# Altium footprint library Connector_PinSocket_2.54mm.PcbLib: 278 footprints (part 3 of 18)
Each footprint in its own frame and in the unit in brackets; x right, y up, seen from the top. Pads: shape width x height; smd on the part's side, far side on the other; paste and mask are expansions set on the pad; w line width, h text height; cw(c..) or ccw(c..) is an arc to the next point about the centre after c.
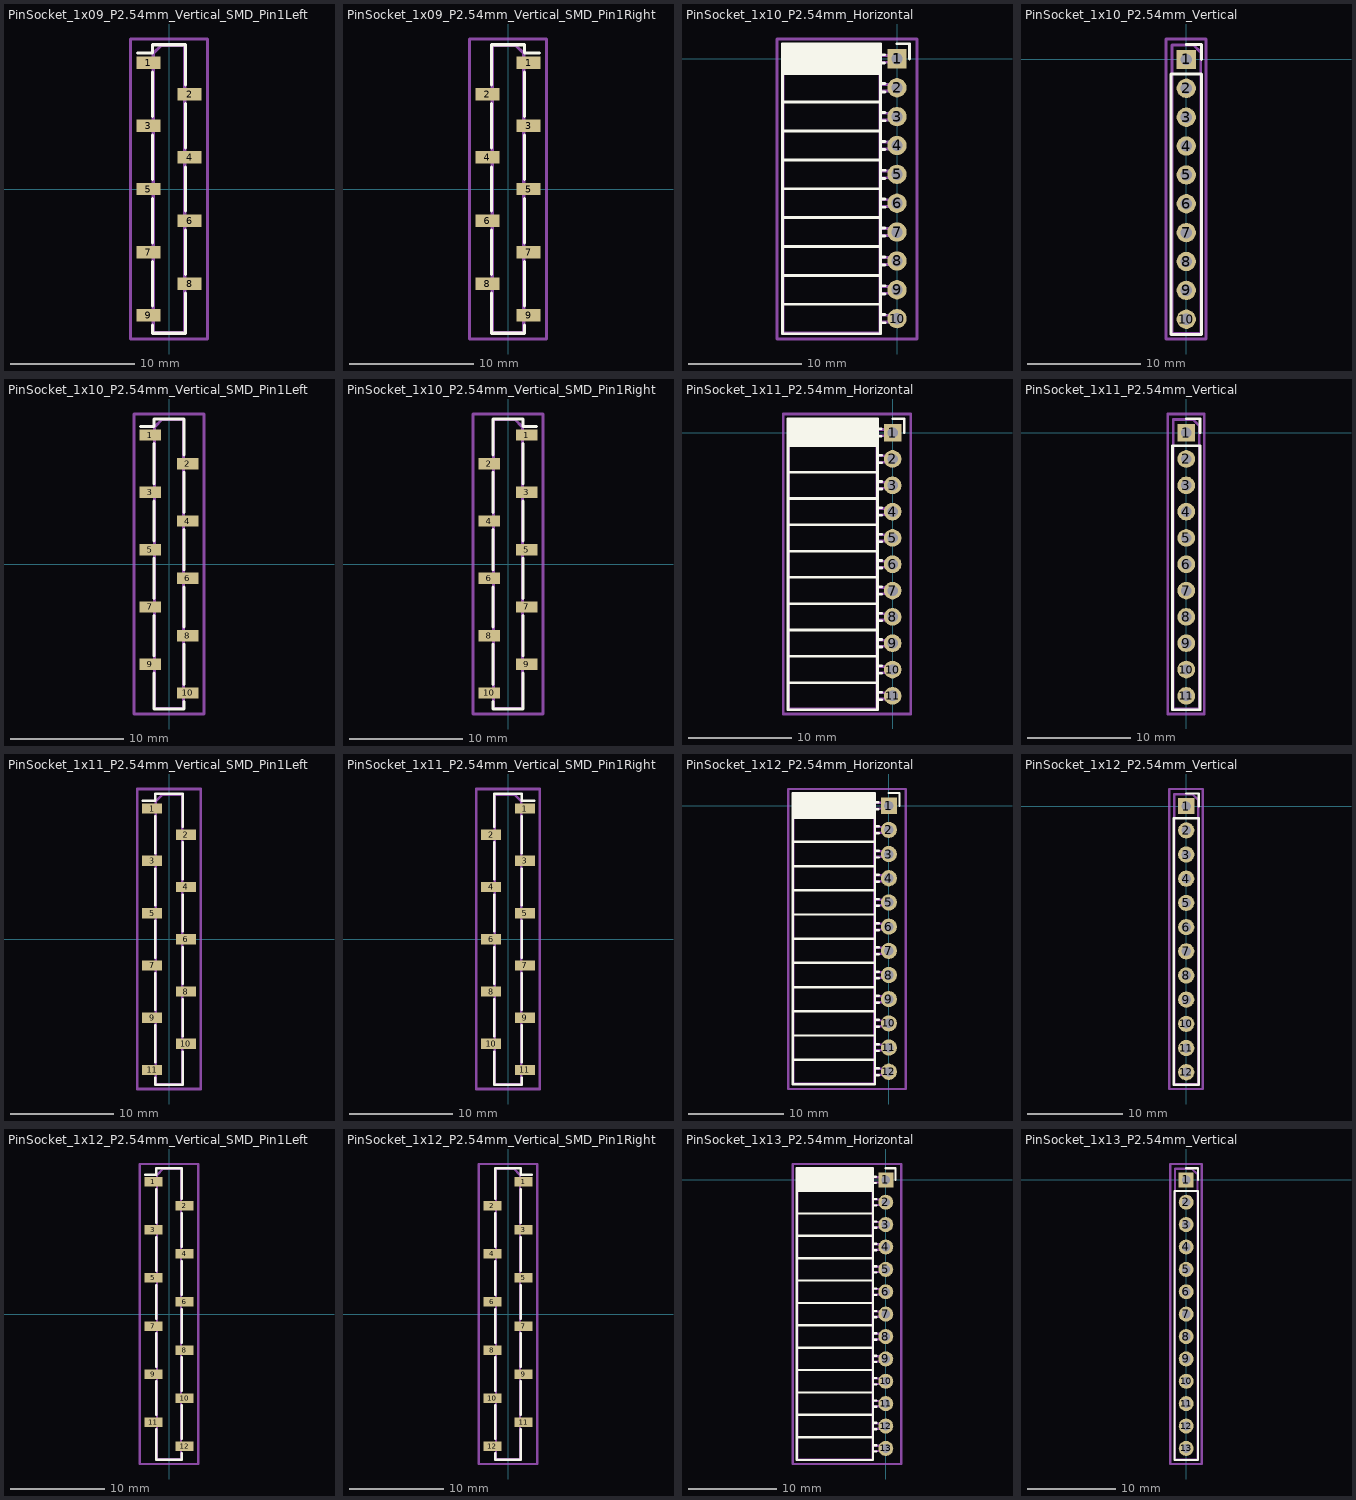
[diagram p2: the footprints below, top view; thin cyan lines are the x and y axes]

## PinSocket_1x09_P2.54mm_Vertical_SMD_Pin1Left [mm]
pads (9):
  rect 1.9x1 smd: 1(-1.65,10.16) 2(1.65,7.62) 3(-1.65,5.08) 4(1.65,2.54) 5(-1.65,0) 6(1.65,-2.54) 7(-1.65,-5.08) 8(1.65,-7.62) 9(-1.65,-10.16)
F.SilkS:
  lines w0.254: -2.54,10.92 -1.33,10.92 -1.33,11.59 1.33,11.59 1.33,8.38 ; -1.33,-10.92 -1.33,-11.59 1.33,-11.59 1.33,-8.38 ; -1.33,-9.4 -1.33,-5.84 ; -1.33,-4.32 -1.33,-0.76 ; -1.33,0.76 -1.33,4.32 ; -1.33,5.84 -1.33,9.4 ; 1.33,-6.86 1.33,-3.3 ; 1.33,-1.78 1.33,1.78 ; 1.33,3.3 1.33,6.86
Top Assembly:
  lines w0.254: -1.27,-10.46 -2.27,-10.46 -2.27,-9.86 -1.27,-9.86 ; -1.27,-5.38 -2.27,-5.38 -2.27,-4.78 -1.27,-4.78 ; -1.27,-0.3 -2.27,-0.3 -2.27,0.3 -1.27,0.3 ; -1.27,4.78 -2.27,4.78 -2.27,5.38 -1.27,5.38 ; -1.27,9.86 -2.27,9.86 -2.27,10.46 -1.27,10.46 ; 1.27,-7.92 2.27,-7.92 2.27,-7.32 1.27,-7.32 ; 1.27,-2.84 2.27,-2.84 2.27,-2.24 1.27,-2.24 ; 1.27,2.24 2.27,2.24 2.27,2.84 1.27,2.84 ; 1.27,7.32 2.27,7.32 2.27,7.92 1.27,7.92 ; -1.27,-11.53 1.27,-11.53 1.27,11.53 -0.635,11.53 -1.27,10.895 -1.27,-11.53
  text "'.Designator'" at 0.84,-4.047 h1
Top Courtyard:
  lines w0.254: -3.1,-12.05 3.1,-12.05 3.1,12.05 -3.1,12.05 -3.1,-12.05
Top Designator:
  text ".Designator" at -7.618,-0.508 h1.52

## PinSocket_1x09_P2.54mm_Vertical_SMD_Pin1Right [mm]
pads (9):
  rect 1.9x1 smd: 1(1.65,10.16) 2(-1.65,7.62) 3(1.65,5.08) 4(-1.65,2.54) 5(1.65,0) 6(-1.65,-2.54) 7(1.65,-5.08) 8(-1.65,-7.62) 9(1.65,-10.16)
F.SilkS:
  lines w0.254: -1.33,-8.38 -1.33,-11.59 1.33,-11.59 1.33,-10.92 ; -1.33,-6.86 -1.33,-3.3 ; -1.33,-1.78 -1.33,1.78 ; -1.33,3.3 -1.33,6.86 ; -1.33,8.38 -1.33,11.59 1.33,11.59 1.33,10.92 2.54,10.92 ; 1.33,-9.4 1.33,-5.84 ; 1.33,-4.32 1.33,-0.76 ; 1.33,0.76 1.33,4.32 ; 1.33,5.84 1.33,9.4
Top Assembly:
  lines w0.254: -1.27,-7.92 -2.27,-7.92 -2.27,-7.32 -1.27,-7.32 ; -1.27,-2.84 -2.27,-2.84 -2.27,-2.24 -1.27,-2.24 ; -1.27,2.24 -2.27,2.24 -2.27,2.84 -1.27,2.84 ; -1.27,7.32 -2.27,7.32 -2.27,7.92 -1.27,7.92 ; 1.27,-10.46 2.27,-10.46 2.27,-9.86 1.27,-9.86 ; 1.27,-5.38 2.27,-5.38 2.27,-4.78 1.27,-4.78 ; 1.27,-0.3 2.27,-0.3 2.27,0.3 1.27,0.3 ; 1.27,4.78 2.27,4.78 2.27,5.38 1.27,5.38 ; 1.27,9.86 2.27,9.86 2.27,10.46 1.27,10.46 ; -1.27,-11.53 1.27,-11.53 1.27,10.895 0.635,11.53 -1.27,11.53 -1.27,-11.53
  text "'.Designator'" at 0.84,-4.047 h1
Top Courtyard:
  lines w0.254: -3.1,-12.05 3.1,-12.05 3.1,12.05 -3.1,12.05 -3.1,-12.05
Top Designator:
  text ".Designator" at -7.618,-0.508 h1.52

## PinSocket_1x10_P2.54mm_Horizontal [mm]
pads (10):
  rect 1.7x1.7 hole 1: 1(0,0)
  round 1.7 hole 1: 2(0,-2.54) 3(0,-5.08) 4(0,-7.62) 5(0,-10.16) 6(0,-12.7) 7(0,-15.24) 8(0,-17.78) 9(0,-20.32) 10(0,-22.86)
F.SilkS:
  lines w0.254: -10.09,-21.59 -1.46,-21.59 ; -10.09,-19.05 -1.46,-19.05 ; -10.09,-16.51 -1.46,-16.51 ; -10.09,-13.97 -1.46,-13.97 ; -10.09,-11.43 -1.46,-11.43 ; -10.09,-8.89 -1.46,-8.89 ; -10.09,-6.35 -1.46,-6.35 ; -10.09,-3.81 -1.46,-3.81 ; -10.09,-1.27 -1.46,-1.27 ; -10.09,-1.152 -1.46,-1.152 ; -10.09,-1.034 -1.46,-1.034 ; -10.09,-0.916 -1.46,-0.916 ; -10.09,-0.798 -1.46,-0.798 ; -10.09,-0.68 -1.46,-0.68 ; -10.09,-0.561 -1.46,-0.561 ; -10.09,-0.443 -1.46,-0.443 ; -10.09,-0.325 -1.46,-0.325 ; -10.09,-0.207 -1.46,-0.207 ; -10.09,-0.089 -1.46,-0.089 ; -10.09,0.029 -1.46,0.029 ; -10.09,0.147 -1.46,0.147 ; -10.09,0.265 -1.46,0.265 ; -10.09,0.383 -1.46,0.383 ; -10.09,0.501 -1.46,0.501 ; -10.09,0.62 -1.46,0.62 ; -10.09,0.738 -1.46,0.738 ; -10.09,0.856 -1.46,0.856 ; -10.09,0.974 -1.46,0.974 ; -10.09,1.092 -1.46,1.092 ; -10.09,1.21 -1.46,1.21 ; -1.46,-23.22 -1.05,-23.22 ; -1.46,-22.5 -1.05,-22.5 ; -1.46,-20.68 -1.05,-20.68 ; -1.46,-19.96 -1.05,-19.96 ; -1.46,-18.14 -1.05,-18.14 ; -1.46,-17.42 -1.05,-17.42 ; -1.46,-15.6 -1.05,-15.6 ; -1.46,-14.88 -1.05,-14.88 ; -1.46,-13.06 -1.05,-13.06 ; -1.46,-12.34 -1.05,-12.34 ; -1.46,-10.52 -1.05,-10.52 ; -1.46,-9.8 -1.05,-9.8 ; -1.46,-7.98 -1.05,-7.98 ; -1.46,-7.26 -1.05,-7.26 ; -1.46,-5.44 -1.05,-5.44 ; -1.46,-4.72 -1.05,-4.72 ; -1.46,-2.9 -1.05,-2.9 ; -1.46,-2.18 -1.05,-2.18 ; -1.46,-0.36 -1.11,-0.36 ; -1.46,0.36 -1.11,0.36 ; 0,1.33 1.11,1.33 1.11,0 ; -10.09,-24.19 -1.46,-24.19 -1.46,1.33 -10.09,1.33 -10.09,-24.19
Top Assembly:
  lines w0.254: -1.52,-23.16 0,-23.16 0,-22.56 -1.52,-22.56 ; -1.52,-20.62 0,-20.62 0,-20.02 -1.52,-20.02 ; -1.52,-18.08 0,-18.08 0,-17.48 -1.52,-17.48 ; -1.52,-15.54 0,-15.54 0,-14.94 -1.52,-14.94 ; -1.52,-13 0,-13 0,-12.4 -1.52,-12.4 ; -1.52,-10.46 0,-10.46 0,-9.86 -1.52,-9.86 ; -1.52,-7.92 0,-7.92 0,-7.32 -1.52,-7.32 ; -1.52,-5.38 0,-5.38 0,-4.78 -1.52,-4.78 ; -1.52,-2.84 0,-2.84 0,-2.24 -1.52,-2.24 ; -1.52,-0.3 0,-0.3 0,0.3 -1.52,0.3 ; -1.52,0.3 -1.52,-24.13 -10.03,-24.13 -10.03,1.27 -2.49,1.27 -1.52,0.3
  text "'.Designator'" at -4.935,-15.477 h1
Top Courtyard:
  lines w0.254: -10.55,-24.65 1.75,-24.65 1.75,1.75 -10.55,1.75 -10.55,-24.65
Top Designator:
  text ".Designator" at -12.018,-11.958 h1.52

## PinSocket_1x10_P2.54mm_Vertical [mm]
pads (10):
  rect 1.7x1.7 hole 1: 1(0,0)
  round 1.7 hole 1: 2(0,-2.54) 3(0,-5.08) 4(0,-7.62) 5(0,-10.16) 6(0,-12.7) 7(0,-15.24) 8(0,-17.78) 9(0,-20.32) 10(0,-22.86)
F.SilkS:
  lines w0.254: 0,1.33 1.33,1.33 1.33,0 ; -1.33,-24.19 1.33,-24.19 1.33,-1.27 -1.33,-1.27 -1.33,-24.19
Top Assembly:
  lines w0.254: -1.27,-24.13 1.27,-24.13 1.27,0.635 0.635,1.27 -1.27,1.27 -1.27,-24.13
  text "'.Designator'" at 0.84,-15.477 h1
Top Courtyard:
  lines w0.254: -1.8,-24.6 1.75,-24.6 1.75,1.8 -1.8,1.8 -1.8,-24.6
Top Designator:
  text ".Designator" at -7.643,-11.908 h1.52

## PinSocket_1x10_P2.54mm_Vertical_SMD_Pin1Left [mm]
pads (10):
  rect 1.9x1 smd: 1(-1.65,11.43) 2(1.65,8.89) 3(-1.65,6.35) 4(1.65,3.81) 5(-1.65,1.27) 6(1.65,-1.27) 7(-1.65,-3.81) 8(1.65,-6.35) 9(-1.65,-8.89) 10(1.65,-11.43)
F.SilkS:
  lines w0.254: -2.54,12.19 -1.33,12.19 -1.33,12.86 1.33,12.86 1.33,9.65 ; -1.33,-9.65 -1.33,-12.86 1.33,-12.86 1.33,-12.19 ; -1.33,-8.13 -1.33,-4.57 ; -1.33,-3.05 -1.33,0.51 ; -1.33,2.03 -1.33,5.59 ; -1.33,7.11 -1.33,10.67 ; 1.33,-10.67 1.33,-7.11 ; 1.33,-5.59 1.33,-2.03 ; 1.33,-0.51 1.33,3.05 ; 1.33,4.57 1.33,8.13
Top Assembly:
  lines w0.254: -1.27,-9.19 -2.27,-9.19 -2.27,-8.59 -1.27,-8.59 ; -1.27,-4.11 -2.27,-4.11 -2.27,-3.51 -1.27,-3.51 ; -1.27,0.97 -2.27,0.97 -2.27,1.57 -1.27,1.57 ; -1.27,6.05 -2.27,6.05 -2.27,6.65 -1.27,6.65 ; -1.27,11.13 -2.27,11.13 -2.27,11.73 -1.27,11.73 ; 1.27,-11.73 2.27,-11.73 2.27,-11.13 1.27,-11.13 ; 1.27,-6.65 2.27,-6.65 2.27,-6.05 1.27,-6.05 ; 1.27,-1.57 2.27,-1.57 2.27,-0.97 1.27,-0.97 ; 1.27,3.51 2.27,3.51 2.27,4.11 1.27,4.11 ; 1.27,8.59 2.27,8.59 2.27,9.19 1.27,9.19 ; -1.27,-12.8 1.27,-12.8 1.27,12.8 -0.635,12.8 -1.27,12.165 -1.27,-12.8
  text "'.Designator'" at 0.84,-4.047 h1
Top Courtyard:
  lines w0.254: -3.1,-13.3 3.1,-13.3 3.1,13.3 -3.1,13.3 -3.1,-13.3
Top Designator:
  text ".Designator" at -7.618,-0.508 h1.52

## PinSocket_1x10_P2.54mm_Vertical_SMD_Pin1Right [mm]
pads (10):
  rect 1.9x1 smd: 1(1.65,11.43) 2(-1.65,8.89) 3(1.65,6.35) 4(-1.65,3.81) 5(1.65,1.27) 6(-1.65,-1.27) 7(1.65,-3.81) 8(-1.65,-6.35) 9(1.65,-8.89) 10(-1.65,-11.43)
F.SilkS:
  lines w0.254: -1.33,-12.19 -1.33,-12.86 1.33,-12.86 1.33,-9.65 ; -1.33,-10.67 -1.33,-7.11 ; -1.33,-5.59 -1.33,-2.03 ; -1.33,-0.51 -1.33,3.05 ; -1.33,4.57 -1.33,8.13 ; -1.33,9.65 -1.33,12.86 1.33,12.86 1.33,12.19 2.54,12.19 ; 1.33,-8.13 1.33,-4.57 ; 1.33,-3.05 1.33,0.51 ; 1.33,2.03 1.33,5.59 ; 1.33,7.11 1.33,10.67
Top Assembly:
  lines w0.254: -1.27,-11.73 -2.27,-11.73 -2.27,-11.13 -1.27,-11.13 ; -1.27,-6.65 -2.27,-6.65 -2.27,-6.05 -1.27,-6.05 ; -1.27,-1.57 -2.27,-1.57 -2.27,-0.97 -1.27,-0.97 ; -1.27,3.51 -2.27,3.51 -2.27,4.11 -1.27,4.11 ; -1.27,8.59 -2.27,8.59 -2.27,9.19 -1.27,9.19 ; 1.27,-9.19 2.27,-9.19 2.27,-8.59 1.27,-8.59 ; 1.27,-4.11 2.27,-4.11 2.27,-3.51 1.27,-3.51 ; 1.27,0.97 2.27,0.97 2.27,1.57 1.27,1.57 ; 1.27,6.05 2.27,6.05 2.27,6.65 1.27,6.65 ; 1.27,11.13 2.27,11.13 2.27,11.73 1.27,11.73 ; -1.27,-12.8 1.27,-12.8 1.27,12.165 0.635,12.8 -1.27,12.8 -1.27,-12.8
  text "'.Designator'" at 0.84,-4.047 h1
Top Courtyard:
  lines w0.254: -3.1,-13.3 3.1,-13.3 3.1,13.3 -3.1,13.3 -3.1,-13.3
Top Designator:
  text ".Designator" at -7.618,-0.508 h1.52

## PinSocket_1x11_P2.54mm_Horizontal [mm]
pads (11):
  rect 1.7x1.7 hole 1: 1(0,0)
  round 1.7 hole 1: 2(0,-2.54) 3(0,-5.08) 4(0,-7.62) 5(0,-10.16) 6(0,-12.7) 7(0,-15.24) 8(0,-17.78) 9(0,-20.32) 10(0,-22.86) 11(0,-25.4)
F.SilkS:
  lines w0.254: -10.09,-24.13 -1.46,-24.13 ; -10.09,-21.59 -1.46,-21.59 ; -10.09,-19.05 -1.46,-19.05 ; -10.09,-16.51 -1.46,-16.51 ; -10.09,-13.97 -1.46,-13.97 ; -10.09,-11.43 -1.46,-11.43 ; -10.09,-8.89 -1.46,-8.89 ; -10.09,-6.35 -1.46,-6.35 ; -10.09,-3.81 -1.46,-3.81 ; -10.09,-1.27 -1.46,-1.27 ; -10.09,-1.152 -1.46,-1.152 ; -10.09,-1.034 -1.46,-1.034 ; -10.09,-0.916 -1.46,-0.916 ; -10.09,-0.798 -1.46,-0.798 ; -10.09,-0.68 -1.46,-0.68 ; -10.09,-0.561 -1.46,-0.561 ; -10.09,-0.443 -1.46,-0.443 ; -10.09,-0.325 -1.46,-0.325 ; -10.09,-0.207 -1.46,-0.207 ; -10.09,-0.089 -1.46,-0.089 ; -10.09,0.029 -1.46,0.029 ; -10.09,0.147 -1.46,0.147 ; -10.09,0.265 -1.46,0.265 ; -10.09,0.383 -1.46,0.383 ; -10.09,0.501 -1.46,0.501 ; -10.09,0.62 -1.46,0.62 ; -10.09,0.738 -1.46,0.738 ; -10.09,0.856 -1.46,0.856 ; -10.09,0.974 -1.46,0.974 ; -10.09,1.092 -1.46,1.092 ; -10.09,1.21 -1.46,1.21 ; -1.46,-25.76 -1.05,-25.76 ; -1.46,-25.04 -1.05,-25.04 ; -1.46,-23.22 -1.05,-23.22 ; -1.46,-22.5 -1.05,-22.5 ; -1.46,-20.68 -1.05,-20.68 ; -1.46,-19.96 -1.05,-19.96 ; -1.46,-18.14 -1.05,-18.14 ; -1.46,-17.42 -1.05,-17.42 ; -1.46,-15.6 -1.05,-15.6 ; -1.46,-14.88 -1.05,-14.88 ; -1.46,-13.06 -1.05,-13.06 ; -1.46,-12.34 -1.05,-12.34 ; -1.46,-10.52 -1.05,-10.52 ; -1.46,-9.8 -1.05,-9.8 ; -1.46,-7.98 -1.05,-7.98 ; -1.46,-7.26 -1.05,-7.26 ; -1.46,-5.44 -1.05,-5.44 ; -1.46,-4.72 -1.05,-4.72 ; -1.46,-2.9 -1.05,-2.9 ; -1.46,-2.18 -1.05,-2.18 ; -1.46,-0.36 -1.11,-0.36 ; -1.46,0.36 -1.11,0.36 ; 0,1.33 1.11,1.33 1.11,0 ; -10.09,-26.73 -1.46,-26.73 -1.46,1.33 -10.09,1.33 -10.09,-26.73
Top Assembly:
  lines w0.254: -1.52,-25.7 0,-25.7 0,-25.1 -1.52,-25.1 ; -1.52,-23.16 0,-23.16 0,-22.56 -1.52,-22.56 ; -1.52,-20.62 0,-20.62 0,-20.02 -1.52,-20.02 ; -1.52,-18.08 0,-18.08 0,-17.48 -1.52,-17.48 ; -1.52,-15.54 0,-15.54 0,-14.94 -1.52,-14.94 ; -1.52,-13 0,-13 0,-12.4 -1.52,-12.4 ; -1.52,-10.46 0,-10.46 0,-9.86 -1.52,-9.86 ; -1.52,-7.92 0,-7.92 0,-7.32 -1.52,-7.32 ; -1.52,-5.38 0,-5.38 0,-4.78 -1.52,-4.78 ; -1.52,-2.84 0,-2.84 0,-2.24 -1.52,-2.24 ; -1.52,-0.3 0,-0.3 0,0.3 -1.52,0.3 ; -1.52,0.3 -1.52,-26.67 -10.03,-26.67 -10.03,1.27 -2.49,1.27 -1.52,0.3
  text "'.Designator'" at -4.935,-16.747 h1
Top Courtyard:
  lines w0.254: -10.55,-27.15 1.75,-27.15 1.75,1.8 -10.55,1.8 -10.55,-27.15
Top Designator:
  text ".Designator" at -12.018,-13.183 h1.52

## PinSocket_1x11_P2.54mm_Vertical [mm]
pads (11):
  rect 1.7x1.7 hole 1: 1(0,0)
  round 1.7 hole 1: 2(0,-2.54) 3(0,-5.08) 4(0,-7.62) 5(0,-10.16) 6(0,-12.7) 7(0,-15.24) 8(0,-17.78) 9(0,-20.32) 10(0,-22.86) 11(0,-25.4)
F.SilkS:
  lines w0.254: 0,1.33 1.33,1.33 1.33,0 ; -1.33,-26.73 1.33,-26.73 1.33,-1.27 -1.33,-1.27 -1.33,-26.73
Top Assembly:
  lines w0.254: -1.27,-26.67 1.27,-26.67 1.27,0.635 0.635,1.27 -1.27,1.27 -1.27,-26.67
  text "'.Designator'" at 0.84,-16.747 h1
Top Courtyard:
  lines w0.254: -1.8,-27.15 1.75,-27.15 1.75,1.8 -1.8,1.8 -1.8,-27.15
Top Designator:
  text ".Designator" at -7.643,-13.183 h1.52

## PinSocket_1x11_P2.54mm_Vertical_SMD_Pin1Left [mm]
pads (11):
  rect 1.9x1 smd: 1(-1.65,12.7) 2(1.65,10.16) 3(-1.65,7.62) 4(1.65,5.08) 5(-1.65,2.54) 6(1.65,0) 7(-1.65,-2.54) 8(1.65,-5.08) 9(-1.65,-7.62) 10(1.65,-10.16) 11(-1.65,-12.7)
F.SilkS:
  lines w0.254: -2.54,13.46 -1.33,13.46 -1.33,14.13 1.33,14.13 1.33,10.92 ; -1.33,-13.46 -1.33,-14.13 1.33,-14.13 1.33,-10.92 ; -1.33,-11.94 -1.33,-8.38 ; -1.33,-6.86 -1.33,-3.3 ; -1.33,-1.78 -1.33,1.78 ; -1.33,3.3 -1.33,6.86 ; -1.33,8.38 -1.33,11.94 ; 1.33,-9.4 1.33,-5.84 ; 1.33,-4.32 1.33,-0.76 ; 1.33,0.76 1.33,4.32 ; 1.33,5.84 1.33,9.4
Top Assembly:
  lines w0.254: -1.27,-13 -2.27,-13 -2.27,-12.4 -1.27,-12.4 ; -1.27,-7.92 -2.27,-7.92 -2.27,-7.32 -1.27,-7.32 ; -1.27,-2.84 -2.27,-2.84 -2.27,-2.24 -1.27,-2.24 ; -1.27,2.24 -2.27,2.24 -2.27,2.84 -1.27,2.84 ; -1.27,7.32 -2.27,7.32 -2.27,7.92 -1.27,7.92 ; -1.27,12.4 -2.27,12.4 -2.27,13 -1.27,13 ; 1.27,-10.46 2.27,-10.46 2.27,-9.86 1.27,-9.86 ; 1.27,-5.38 2.27,-5.38 2.27,-4.78 1.27,-4.78 ; 1.27,-0.3 2.27,-0.3 2.27,0.3 1.27,0.3 ; 1.27,4.78 2.27,4.78 2.27,5.38 1.27,5.38 ; 1.27,9.86 2.27,9.86 2.27,10.46 1.27,10.46 ; -1.27,-14.07 1.27,-14.07 1.27,14.07 -0.635,14.07 -1.27,13.435 -1.27,-14.07
  text "'.Designator'" at 0.84,-4.047 h1
Top Courtyard:
  lines w0.254: -3.1,-14.55 3.1,-14.55 3.1,14.6 -3.1,14.6 -3.1,-14.55
Top Designator:
  text ".Designator" at -7.618,-0.483 h1.52

## PinSocket_1x11_P2.54mm_Vertical_SMD_Pin1Right [mm]
pads (11):
  rect 1.9x1 smd: 1(1.65,12.7) 2(-1.65,10.16) 3(1.65,7.62) 4(-1.65,5.08) 5(1.65,2.54) 6(-1.65,0) 7(1.65,-2.54) 8(-1.65,-5.08) 9(1.65,-7.62) 10(-1.65,-10.16) 11(1.65,-12.7)
F.SilkS:
  lines w0.254: -1.33,-10.92 -1.33,-14.13 1.33,-14.13 1.33,-13.46 ; -1.33,-9.4 -1.33,-5.84 ; -1.33,-4.32 -1.33,-0.76 ; -1.33,0.76 -1.33,4.32 ; -1.33,5.84 -1.33,9.4 ; -1.33,10.92 -1.33,14.13 1.33,14.13 1.33,13.46 2.54,13.46 ; 1.33,-11.94 1.33,-8.38 ; 1.33,-6.86 1.33,-3.3 ; 1.33,-1.78 1.33,1.78 ; 1.33,3.3 1.33,6.86 ; 1.33,8.38 1.33,11.94
Top Assembly:
  lines w0.254: -1.27,-10.46 -2.27,-10.46 -2.27,-9.86 -1.27,-9.86 ; -1.27,-5.38 -2.27,-5.38 -2.27,-4.78 -1.27,-4.78 ; -1.27,-0.3 -2.27,-0.3 -2.27,0.3 -1.27,0.3 ; -1.27,4.78 -2.27,4.78 -2.27,5.38 -1.27,5.38 ; -1.27,9.86 -2.27,9.86 -2.27,10.46 -1.27,10.46 ; 1.27,-13 2.27,-13 2.27,-12.4 1.27,-12.4 ; 1.27,-7.92 2.27,-7.92 2.27,-7.32 1.27,-7.32 ; 1.27,-2.84 2.27,-2.84 2.27,-2.24 1.27,-2.24 ; 1.27,2.24 2.27,2.24 2.27,2.84 1.27,2.84 ; 1.27,7.32 2.27,7.32 2.27,7.92 1.27,7.92 ; 1.27,12.4 2.27,12.4 2.27,13 1.27,13 ; -1.27,-14.07 1.27,-14.07 1.27,13.435 0.635,14.07 -1.27,14.07 -1.27,-14.07
  text "'.Designator'" at 0.84,-4.047 h1
Top Courtyard:
  lines w0.254: -3.1,-14.55 3.1,-14.55 3.1,14.6 -3.1,14.6 -3.1,-14.55
Top Designator:
  text ".Designator" at -7.618,-0.483 h1.52

## PinSocket_1x12_P2.54mm_Horizontal [mm]
pads (12):
  rect 1.7x1.7 hole 1: 1(0,0)
  round 1.7 hole 1: 2(0,-2.54) 3(0,-5.08) 4(0,-7.62) 5(0,-10.16) 6(0,-12.7) 7(0,-15.24) 8(0,-17.78) 9(0,-20.32) 10(0,-22.86) 11(0,-25.4) 12(0,-27.94)
F.SilkS:
  lines w0.254: -10.09,-26.67 -1.46,-26.67 ; -10.09,-24.13 -1.46,-24.13 ; -10.09,-21.59 -1.46,-21.59 ; -10.09,-19.05 -1.46,-19.05 ; -10.09,-16.51 -1.46,-16.51 ; -10.09,-13.97 -1.46,-13.97 ; -10.09,-11.43 -1.46,-11.43 ; -10.09,-8.89 -1.46,-8.89 ; -10.09,-6.35 -1.46,-6.35 ; -10.09,-3.81 -1.46,-3.81 ; -10.09,-1.27 -1.46,-1.27 ; -10.09,-1.152 -1.46,-1.152 ; -10.09,-1.034 -1.46,-1.034 ; -10.09,-0.916 -1.46,-0.916 ; -10.09,-0.798 -1.46,-0.798 ; -10.09,-0.68 -1.46,-0.68 ; -10.09,-0.561 -1.46,-0.561 ; -10.09,-0.443 -1.46,-0.443 ; -10.09,-0.325 -1.46,-0.325 ; -10.09,-0.207 -1.46,-0.207 ; -10.09,-0.089 -1.46,-0.089 ; -10.09,0.029 -1.46,0.029 ; -10.09,0.147 -1.46,0.147 ; -10.09,0.265 -1.46,0.265 ; -10.09,0.383 -1.46,0.383 ; -10.09,0.501 -1.46,0.501 ; -10.09,0.62 -1.46,0.62 ; -10.09,0.738 -1.46,0.738 ; -10.09,0.856 -1.46,0.856 ; -10.09,0.974 -1.46,0.974 ; -10.09,1.092 -1.46,1.092 ; -10.09,1.21 -1.46,1.21 ; -1.46,-28.3 -1.05,-28.3 ; -1.46,-27.58 -1.05,-27.58 ; -1.46,-25.76 -1.05,-25.76 ; -1.46,-25.04 -1.05,-25.04 ; -1.46,-23.22 -1.05,-23.22 ; -1.46,-22.5 -1.05,-22.5 ; -1.46,-20.68 -1.05,-20.68 ; -1.46,-19.96 -1.05,-19.96 ; -1.46,-18.14 -1.05,-18.14 ; -1.46,-17.42 -1.05,-17.42 ; -1.46,-15.6 -1.05,-15.6 ; -1.46,-14.88 -1.05,-14.88 ; -1.46,-13.06 -1.05,-13.06 ; -1.46,-12.34 -1.05,-12.34 ; -1.46,-10.52 -1.05,-10.52 ; -1.46,-9.8 -1.05,-9.8 ; -1.46,-7.98 -1.05,-7.98 ; -1.46,-7.26 -1.05,-7.26 ; -1.46,-5.44 -1.05,-5.44 ; -1.46,-4.72 -1.05,-4.72 ; -1.46,-2.9 -1.05,-2.9 ; -1.46,-2.18 -1.05,-2.18 ; -1.46,-0.36 -1.11,-0.36 ; -1.46,0.36 -1.11,0.36 ; 0,1.33 1.11,1.33 1.11,0 ; -10.09,-29.27 -1.46,-29.27 -1.46,1.33 -10.09,1.33 -10.09,-29.27
Top Assembly:
  lines w0.254: -1.52,-28.24 0,-28.24 0,-27.64 -1.52,-27.64 ; -1.52,-25.7 0,-25.7 0,-25.1 -1.52,-25.1 ; -1.52,-23.16 0,-23.16 0,-22.56 -1.52,-22.56 ; -1.52,-20.62 0,-20.62 0,-20.02 -1.52,-20.02 ; -1.52,-18.08 0,-18.08 0,-17.48 -1.52,-17.48 ; -1.52,-15.54 0,-15.54 0,-14.94 -1.52,-14.94 ; -1.52,-13 0,-13 0,-12.4 -1.52,-12.4 ; -1.52,-10.46 0,-10.46 0,-9.86 -1.52,-9.86 ; -1.52,-7.92 0,-7.92 0,-7.32 -1.52,-7.32 ; -1.52,-5.38 0,-5.38 0,-4.78 -1.52,-4.78 ; -1.52,-2.84 0,-2.84 0,-2.24 -1.52,-2.24 ; -1.52,-0.3 0,-0.3 0,0.3 -1.52,0.3 ; -1.52,0.3 -1.52,-29.21 -10.03,-29.21 -10.03,1.27 -2.49,1.27 -1.52,0.3
  text "'.Designator'" at -4.935,-18.017 h1
Top Courtyard:
  lines w0.254: -10.55,-29.75 1.75,-29.75 1.75,1.75 -10.55,1.75 -10.55,-29.75
Top Designator:
  text ".Designator" at -12.018,-14.508 h1.52

## PinSocket_1x12_P2.54mm_Vertical [mm]
pads (12):
  rect 1.7x1.7 hole 1: 1(0,0)
  round 1.7 hole 1: 2(0,-2.54) 3(0,-5.08) 4(0,-7.62) 5(0,-10.16) 6(0,-12.7) 7(0,-15.24) 8(0,-17.78) 9(0,-20.32) 10(0,-22.86) 11(0,-25.4) 12(0,-27.94)
F.SilkS:
  lines w0.254: 0,1.33 1.33,1.33 1.33,0 ; -1.33,-29.27 1.33,-29.27 1.33,-1.27 -1.33,-1.27 -1.33,-29.27
Top Assembly:
  lines w0.254: -1.27,-29.21 1.27,-29.21 1.27,0.635 0.635,1.27 -1.27,1.27 -1.27,-29.21
  text "'.Designator'" at 0.84,-18.017 h1
Top Courtyard:
  lines w0.254: -1.8,-29.7 1.75,-29.7 1.75,1.8 -1.8,1.8 -1.8,-29.7
Top Designator:
  text ".Designator" at -7.643,-14.458 h1.52

## PinSocket_1x12_P2.54mm_Vertical_SMD_Pin1Left [mm]
pads (12):
  rect 1.9x1 smd: 1(-1.65,13.97) 2(1.65,11.43) 3(-1.65,8.89) 4(1.65,6.35) 5(-1.65,3.81) 6(1.65,1.27) 7(-1.65,-1.27) 8(1.65,-3.81) 9(-1.65,-6.35) 10(1.65,-8.89) 11(-1.65,-11.43) 12(1.65,-13.97)
F.SilkS:
  lines w0.254: -2.54,14.73 -1.33,14.73 -1.33,15.4 1.33,15.4 1.33,12.19 ; -1.33,-12.19 -1.33,-15.4 1.33,-15.4 1.33,-14.73 ; -1.33,-10.67 -1.33,-7.11 ; -1.33,-5.59 -1.33,-2.03 ; -1.33,-0.51 -1.33,3.05 ; -1.33,4.57 -1.33,8.13 ; -1.33,9.65 -1.33,13.21 ; 1.33,-13.21 1.33,-9.65 ; 1.33,-8.13 1.33,-4.57 ; 1.33,-3.05 1.33,0.51 ; 1.33,2.03 1.33,5.59 ; 1.33,7.11 1.33,10.67
Top Assembly:
  lines w0.254: -1.27,-11.73 -2.27,-11.73 -2.27,-11.13 -1.27,-11.13 ; -1.27,-6.65 -2.27,-6.65 -2.27,-6.05 -1.27,-6.05 ; -1.27,-1.57 -2.27,-1.57 -2.27,-0.97 -1.27,-0.97 ; -1.27,3.51 -2.27,3.51 -2.27,4.11 -1.27,4.11 ; -1.27,8.59 -2.27,8.59 -2.27,9.19 -1.27,9.19 ; -1.27,13.67 -2.27,13.67 -2.27,14.27 -1.27,14.27 ; 1.27,-14.27 2.27,-14.27 2.27,-13.67 1.27,-13.67 ; 1.27,-9.19 2.27,-9.19 2.27,-8.59 1.27,-8.59 ; 1.27,-4.11 2.27,-4.11 2.27,-3.51 1.27,-3.51 ; 1.27,0.97 2.27,0.97 2.27,1.57 1.27,1.57 ; 1.27,6.05 2.27,6.05 2.27,6.65 1.27,6.65 ; 1.27,11.13 2.27,11.13 2.27,11.73 1.27,11.73 ; -1.27,-15.34 1.27,-15.34 1.27,15.34 -0.635,15.34 -1.27,14.705 -1.27,-15.34
  text "'.Designator'" at 0.84,-4.047 h1
Top Courtyard:
  lines w0.254: -3.1,-15.85 3.1,-15.85 3.1,15.85 -3.1,15.85 -3.1,-15.85
Top Designator:
  text ".Designator" at -7.618,-0.508 h1.52

## PinSocket_1x12_P2.54mm_Vertical_SMD_Pin1Right [mm]
pads (12):
  rect 1.9x1 smd: 1(1.65,13.97) 2(-1.65,11.43) 3(1.65,8.89) 4(-1.65,6.35) 5(1.65,3.81) 6(-1.65,1.27) 7(1.65,-1.27) 8(-1.65,-3.81) 9(1.65,-6.35) 10(-1.65,-8.89) 11(1.65,-11.43) 12(-1.65,-13.97)
F.SilkS:
  lines w0.254: -1.33,-14.73 -1.33,-15.4 1.33,-15.4 1.33,-12.19 ; -1.33,-13.21 -1.33,-9.65 ; -1.33,-8.13 -1.33,-4.57 ; -1.33,-3.05 -1.33,0.51 ; -1.33,2.03 -1.33,5.59 ; -1.33,7.11 -1.33,10.67 ; -1.33,12.19 -1.33,15.4 1.33,15.4 1.33,14.73 2.54,14.73 ; 1.33,-10.67 1.33,-7.11 ; 1.33,-5.59 1.33,-2.03 ; 1.33,-0.51 1.33,3.05 ; 1.33,4.57 1.33,8.13 ; 1.33,9.65 1.33,13.21
Top Assembly:
  lines w0.254: -1.27,-14.27 -2.27,-14.27 -2.27,-13.67 -1.27,-13.67 ; -1.27,-9.19 -2.27,-9.19 -2.27,-8.59 -1.27,-8.59 ; -1.27,-4.11 -2.27,-4.11 -2.27,-3.51 -1.27,-3.51 ; -1.27,0.97 -2.27,0.97 -2.27,1.57 -1.27,1.57 ; -1.27,6.05 -2.27,6.05 -2.27,6.65 -1.27,6.65 ; -1.27,11.13 -2.27,11.13 -2.27,11.73 -1.27,11.73 ; 1.27,-11.73 2.27,-11.73 2.27,-11.13 1.27,-11.13 ; 1.27,-6.65 2.27,-6.65 2.27,-6.05 1.27,-6.05 ; 1.27,-1.57 2.27,-1.57 2.27,-0.97 1.27,-0.97 ; 1.27,3.51 2.27,3.51 2.27,4.11 1.27,4.11 ; 1.27,8.59 2.27,8.59 2.27,9.19 1.27,9.19 ; 1.27,13.67 2.27,13.67 2.27,14.27 1.27,14.27 ; -1.27,-15.34 1.27,-15.34 1.27,14.705 0.635,15.34 -1.27,15.34 -1.27,-15.34
  text "'.Designator'" at 0.84,-4.047 h1
Top Courtyard:
  lines w0.254: -3.1,-15.85 3.1,-15.85 3.1,15.85 -3.1,15.85 -3.1,-15.85
Top Designator:
  text ".Designator" at -7.618,-0.508 h1.52

## PinSocket_1x13_P2.54mm_Horizontal [mm]
pads (13):
  rect 1.7x1.7 hole 1: 1(0,0)
  round 1.7 hole 1: 2(0,-2.54) 3(0,-5.08) 4(0,-7.62) 5(0,-10.16) 6(0,-12.7) 7(0,-15.24) 8(0,-17.78) 9(0,-20.32) 10(0,-22.86) 11(0,-25.4) 12(0,-27.94) 13(0,-30.48)
F.SilkS:
  lines w0.254: -10.09,-29.21 -1.46,-29.21 ; -10.09,-26.67 -1.46,-26.67 ; -10.09,-24.13 -1.46,-24.13 ; -10.09,-21.59 -1.46,-21.59 ; -10.09,-19.05 -1.46,-19.05 ; -10.09,-16.51 -1.46,-16.51 ; -10.09,-13.97 -1.46,-13.97 ; -10.09,-11.43 -1.46,-11.43 ; -10.09,-8.89 -1.46,-8.89 ; -10.09,-6.35 -1.46,-6.35 ; -10.09,-3.81 -1.46,-3.81 ; -10.09,-1.27 -1.46,-1.27 ; -10.09,-1.152 -1.46,-1.152 ; -10.09,-1.034 -1.46,-1.034 ; -10.09,-0.916 -1.46,-0.916 ; -10.09,-0.798 -1.46,-0.798 ; -10.09,-0.68 -1.46,-0.68 ; -10.09,-0.561 -1.46,-0.561 ; -10.09,-0.443 -1.46,-0.443 ; -10.09,-0.325 -1.46,-0.325 ; -10.09,-0.207 -1.46,-0.207 ; -10.09,-0.089 -1.46,-0.089 ; -10.09,0.029 -1.46,0.029 ; -10.09,0.147 -1.46,0.147 ; -10.09,0.265 -1.46,0.265 ; -10.09,0.383 -1.46,0.383 ; -10.09,0.501 -1.46,0.501 ; -10.09,0.62 -1.46,0.62 ; -10.09,0.738 -1.46,0.738 ; -10.09,0.856 -1.46,0.856 ; -10.09,0.974 -1.46,0.974 ; -10.09,1.092 -1.46,1.092 ; -10.09,1.21 -1.46,1.21 ; -1.46,-30.84 -1.05,-30.84 ; -1.46,-30.12 -1.05,-30.12 ; -1.46,-28.3 -1.05,-28.3 ; -1.46,-27.58 -1.05,-27.58 ; -1.46,-25.76 -1.05,-25.76 ; -1.46,-25.04 -1.05,-25.04 ; -1.46,-23.22 -1.05,-23.22 ; -1.46,-22.5 -1.05,-22.5 ; -1.46,-20.68 -1.05,-20.68 ; -1.46,-19.96 -1.05,-19.96 ; -1.46,-18.14 -1.05,-18.14 ; -1.46,-17.42 -1.05,-17.42 ; -1.46,-15.6 -1.05,-15.6 ; -1.46,-14.88 -1.05,-14.88 ; -1.46,-13.06 -1.05,-13.06 ; -1.46,-12.34 -1.05,-12.34 ; -1.46,-10.52 -1.05,-10.52 ; -1.46,-9.8 -1.05,-9.8 ; -1.46,-7.98 -1.05,-7.98 ; -1.46,-7.26 -1.05,-7.26 ; -1.46,-5.44 -1.05,-5.44 ; -1.46,-4.72 -1.05,-4.72 ; -1.46,-2.9 -1.05,-2.9 ; -1.46,-2.18 -1.05,-2.18 ; -1.46,-0.36 -1.11,-0.36 ; -1.46,0.36 -1.11,0.36 ; 0,1.33 1.11,1.33 1.11,0 ; -10.09,-31.81 -1.46,-31.81 -1.46,1.33 -10.09,1.33 -10.09,-31.81
Top Assembly:
  lines w0.254: -1.52,-30.78 0,-30.78 0,-30.18 -1.52,-30.18 ; -1.52,-28.24 0,-28.24 0,-27.64 -1.52,-27.64 ; -1.52,-25.7 0,-25.7 0,-25.1 -1.52,-25.1 ; -1.52,-23.16 0,-23.16 0,-22.56 -1.52,-22.56 ; -1.52,-20.62 0,-20.62 0,-20.02 -1.52,-20.02 ; -1.52,-18.08 0,-18.08 0,-17.48 -1.52,-17.48 ; -1.52,-15.54 0,-15.54 0,-14.94 -1.52,-14.94 ; -1.52,-13 0,-13 0,-12.4 -1.52,-12.4 ; -1.52,-10.46 0,-10.46 0,-9.86 -1.52,-9.86 ; -1.52,-7.92 0,-7.92 0,-7.32 -1.52,-7.32 ; -1.52,-5.38 0,-5.38 0,-4.78 -1.52,-4.78 ; -1.52,-2.84 0,-2.84 0,-2.24 -1.52,-2.24 ; -1.52,-0.3 0,-0.3 0,0.3 -1.52,0.3 ; -1.52,0.3 -1.52,-31.75 -10.03,-31.75 -10.03,1.27 -2.49,1.27 -1.52,0.3
  text "'.Designator'" at -4.935,-19.287 h1
Top Courtyard:
  lines w0.254: -10.55,-32.25 1.75,-32.25 1.75,1.8 -10.55,1.8 -10.55,-32.25
Top Designator:
  text ".Designator" at -12.018,-15.733 h1.52

## PinSocket_1x13_P2.54mm_Vertical [mm]
pads (13):
  rect 1.7x1.7 hole 1: 1(0,0)
  round 1.7 hole 1: 2(0,-2.54) 3(0,-5.08) 4(0,-7.62) 5(0,-10.16) 6(0,-12.7) 7(0,-15.24) 8(0,-17.78) 9(0,-20.32) 10(0,-22.86) 11(0,-25.4) 12(0,-27.94) 13(0,-30.48)
F.SilkS:
  lines w0.254: 0,1.33 1.33,1.33 1.33,0 ; -1.33,-31.81 1.33,-31.81 1.33,-1.27 -1.33,-1.27 -1.33,-31.81
Top Assembly:
  lines w0.254: -1.27,-31.75 1.27,-31.75 1.27,0.635 0.635,1.27 -1.27,1.27 -1.27,-31.75
  text "'.Designator'" at 0.84,-19.287 h1
Top Courtyard:
  lines w0.254: -1.8,-32.25 1.75,-32.25 1.75,1.8 -1.8,1.8 -1.8,-32.25
Top Designator:
  text ".Designator" at -7.643,-15.733 h1.52